# Altium schematic symbol library TJA1040.SchLib: 1 symbol
Pins are listed as number, name and electrical type; pins without a type are passive.

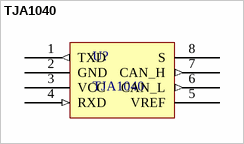
[diagram p0: symbol TJA1040]

## TJA1040
designator U?
CAN收发器
footprint TJA1040 (CAN收发器)
pins: 1 TXD (out), 2 GND, 3 VCC, 4 RXD (in), 5 VREF, 6 CAN_L (out), 7 CAN_H (out), 8 S